# Altium schematic symbol library SCH - MCU - ATMEGA - MICROCHIP ATXMEGA16E5-AU TQFP32.SchLib: 1 symbol
Pins are listed as number, name and electrical type; pins without a type are passive.

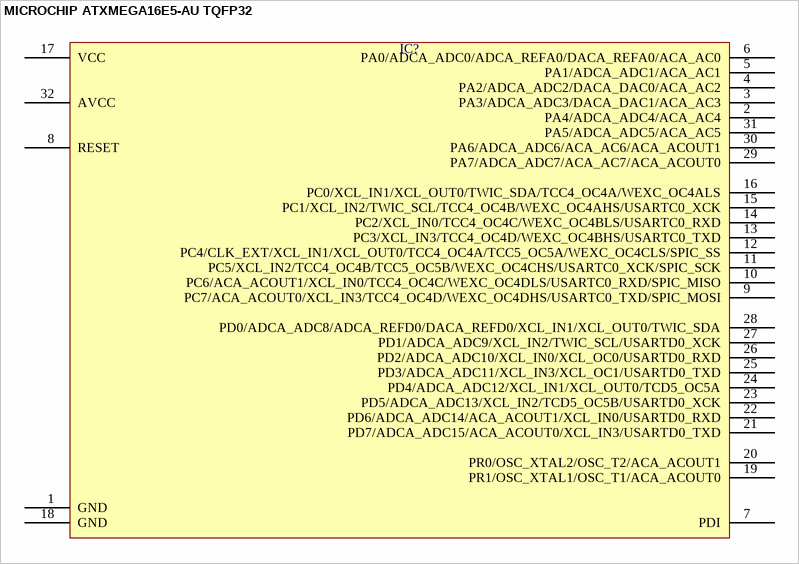
[diagram p0: symbol MICROCHIP ATXMEGA16E5-AU TQFP32]

## MICROCHIP ATXMEGA16E5-AU TQFP32
designator IC?  (value not drawn)
pins: 1 GND, 2 PA4/ADCA_ADC4/ACA_AC4, 3 PA3/ADCA_ADC3/DACA_DAC1/ACA_AC3, 4 PA2/ADCA_ADC2/DACA_DAC0/ACA_AC2, 5 PA1/ADCA_ADC1/ACA_AC1, 6 PA0/ADCA_ADC0/ADCA_REFA0/DACA_REFA0/ACA_AC0, 7 PDI, 8 RESET, 9 PC7/ACA_ACOUT0/XCL_IN3/TCC4_OC4D/WEXC_OC4DHS/USARTC0_TXD/SPIC_MOSI, 10 PC6/ACA_ACOUT1/XCL_IN0/TCC4_OC4C/WEXC_OC4DLS/USARTC0_RXD/SPIC_MISO, 11 PC5/XCL_IN2/TCC4_OC4B/TCC5_OC5B/WEXC_OC4CHS/USARTC0_XCK/SPIC_SCK, 12 PC4/CLK_EXT/XCL_IN1/XCL_OUT0/TCC4_OC4A/TCC5_OC5A/WEXC_OC4CLS/SPIC_SS, 13 PC3/XCL_IN3/TCC4_OC4D/WEXC_OC4BHS/USARTC0_TXD, 14 PC2/XCL_IN0/TCC4_OC4C/WEXC_OC4BLS/USARTC0_RXD, 15 PC1/XCL_IN2/TWIC_SCL/TCC4_OC4B/WEXC_OC4AHS/USARTC0_XCK, 16 PC0/XCL_IN1/XCL_OUT0/TWIC_SDA/TCC4_OC4A/WEXC_OC4ALS, 17 VCC, 18 GND, 19 PR1/OSC_XTAL1/OSC_T1/ACA_ACOUT0, 20 PR0/OSC_XTAL2/OSC_T2/ACA_ACOUT1, 21 PD7/ADCA_ADC15/ACA_ACOUT0/XCL_IN3/USARTD0_TXD, 22 PD6/ADCA_ADC14/ACA_ACOUT1/XCL_IN0/USARTD0_RXD, 23 PD5/ADCA_ADC13/XCL_IN2/TCD5_OC5B/USARTD0_XCK, 24 PD4/ADCA_ADC12/XCL_IN1/XCL_OUT0/TCD5_OC5A, 25 PD3/ADCA_ADC11/XCL_IN3/XCL_OC1/USARTD0_TXD, 26 PD2/ADCA_ADC10/XCL_IN0/XCL_OC0/USARTD0_RXD, 27 PD1/ADCA_ADC9/XCL_IN2/TWIC_SCL/USARTD0_XCK, 28 PD0/ADCA_ADC8/ADCA_REFD0/DACA_REFD0/XCL_IN1/XCL_OUT0/TWIC_SDA, 29 PA7/ADCA_ADC7/ACA_AC7/ACA_ACOUT0, 30 PA6/ADCA_ADC6/ACA_AC6/ACA_ACOUT1, 31 PA5/ADCA_ADC5/ACA_AC5, 32 AVCC